# EAGLE library part ADP-2-10W-75 (library minicircuits1)
Power Splitter/Combiner 2 Way-0° 75 R Internal load dissipation: 0.125 Watt Matched power rating: 1 Watt ADP-2-10W-75 2 Way-0° Frequency MHz Isolation, dB Insertion Loss, dB Above 3.0dB Phase Unbalance Degrees Amplitude Unbalance, dB Power Input, W fL - fU L Typ. Min. M Typ. Min. U Typ. Min. L Typ. Max. M Typ. Max. U Typ. Max. L Max. M Max. U Max. L Max. M Max. U Max. as Combiner Max. as Splitter Max. 5.00-1000 24 14 23 18 24 18 0.20 0.60 0.30 0.90 0.50 1.10 1.00 3.00 5.00 0.10 0.20 0.30 1.00 L=low range(fL to 10fL) M=mid range(10fL to fU/2) U=upper range(fU/2 to fU) FREQ (MHz) Insertion Loss Amplitude Unbalance (dB) Isolation Phase Unbalance (Degrees) FREQ (MHz) VSWR S VSWR 1 VSWR 2 (dB) S-1 (dB) S-2 (dB) 1-2 5.000 3.23 3.24 0.010 21.20 0.03 5.00 1.08 1.24 1.24 14.00 3.21 3.21 0.000 24.46 0.01 14.00 1.06 1.15 1.15 23.00 3.20 3.21 0.010 24.61 0.06 23.00 1.06 1.15 1.14 32.00 3.21 3.21 0.000 24.23 0.07 32.00 1.06 1.15 1.15 41.00 3.22 3.21 0.000 23.86 0.16 41.00 1.06 1.16 1.16 50.00 3.22 3.22 0.010 23.55 0.12 50.00 1.06 1.16 1.16 140.00 3.25 3.26 0.000 22.59 0.38 140.00 1.06 1.19 1.18 230.00 3.28 3.28 0.000 22.63 0.64 230.00 1.07 1.20 1.18 320.00 3.31 3.33 0.020 22.95 0.87 320.00 1.07 1.20 1.17 410.00 3.35 3.36 0.010 23.35 1.06 410.00 1.07 1.19 1.15 500.00 3.38 3.40 0.020 23.72 1.27 500.00 1.06 1.19 1.14 625.00 3.41 3.46 0.050 23.96 1.61 625.00 1.04 1.18 1.11 750.00 3.47 3.52 0.050 23.86 1.85 750.00 1.02 1.16 1.07 875.00 3.55 3.60 0.060 23.54 2.10 875.00 1.05 1.14 1.04 1000.00 3.66 3.72 0.060 23.25 2.21 1000.00 1.11 1.12 1.04
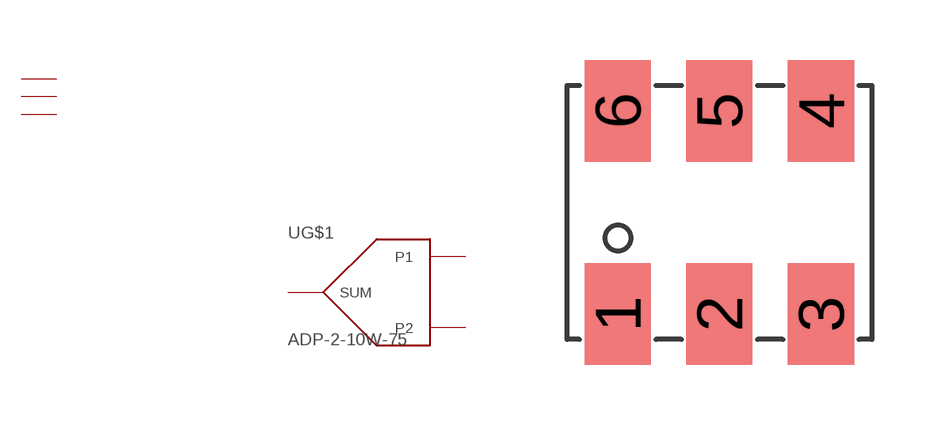
[diagram p19: symbol with the pads of CD636; footprint CD636]

Designator prefix -; gates G$1=POWER_SPLITTER-2W G$2=GND G$3=NC G$4=NC

## ADP-2-10W-75  [CD636]
1  G$1:SUM
2  G$4:NC  nc
3  G$1:P1
4  G$1:P2
5  G$3:NC  nc
6  G$2:GND  pwr

## Footprint CD636 (pad centres in mm)
CD636 http://www.minicircuits.com/cgi-bin/inquery.cgi?querystring=CD636&searchtype=case&x=21&y=7
smd 1.651 x 2.54: 1 0,0; 2 2.54,0; 3 5.08,0; 4 5.08,5.08; 5 2.54,5.08; 6 0,5.08